# EAGLE library part MCP2562-E/SN (library SCADA_CUSTOM_LIBRARY)
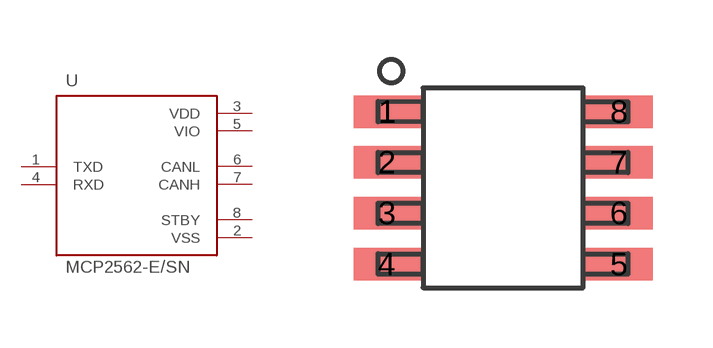
[diagram p7: symbol with the pads of 8-SOIC_HAND_SOLDER; footprint 8-SOIC_HAND_SOLDER]

Designator prefix U

## MCP2562-E/SN  [8-SOIC_HAND_SOLDER]
1  TXD
2  VSS
3  VDD
4  RXD
5  VIO
6  CANL
7  CANH
8  STBY

## Footprint 8-SOIC_HAND_SOLDER (pad centres in mm)
smd 1.676 x 0.813: 1 -2.9,1.91; 2 -2.9,0.64; 3 -2.9,-0.63; 4 -2.9,-1.91; 5 2.9,-1.91; 6 2.9,-0.63; 7 2.9,0.64; 8 2.9,1.91